# EAGLE library part HI5812JIPZ (library Intersil_By_element14_Batch_1)
A/D Converter
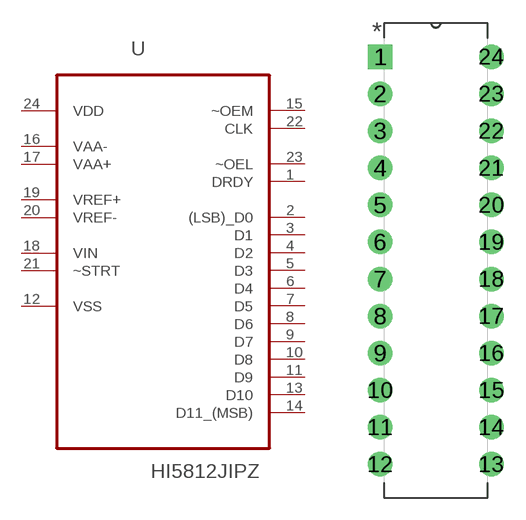
[diagram p131: symbol with the pads of DIP254P762X533-24; footprint DIP254P762X533-24]

Designator prefix U

## HI5812JIPZ (MPN: HI5812JIPZ; OC_FARNELL: 9664076; OC_NEWARK: 61J6052; PACKAGE: PDIP-24; SUPPLIER: INTERSIL)  [DIP254P762X533-24]
1  DRDY  out
2  (LSB)_D0  out
3  D1  out
4  D2  out
5  D3  out
6  D4  out
7  D5  out
8  D6  out
9  D7  out
10  D8  out
11  D9  out
12  VSS  pwr
13  D10  out
14  D11_(MSB)  out
15  ~OEM  out
16  VAA-  pwr
17  VAA+  pwr
18  VIN  in
19  VREF+  in
20  VREF-  in
21  ~STRT  in
22  CLK  out
23  ~OEL  out
24  VDD  pwr

## Footprint DIP254P762X533-24 (pad centres in mm)
drill 1.118 square: 1 -7.62,27.94
drill 1.118: 2 -7.62,25.4; 3 -7.62,22.86; 4 -7.62,20.32; 5 -7.62,17.78; 6 -7.62,15.24; 7 -7.62,12.7; 8 -7.62,10.16; 9 -7.62,7.62; 10 -7.62,5.08; 11 -7.62,2.54; 12 -7.62,0; 13 0,0; 14 0,2.54; 15 0,5.08; 16 0,7.62; 17 0,10.16; 18 0,12.7; 19 0,15.24; 20 0,17.78; 21 0,20.32; 22 0,22.86; 23 0,25.4; 24 0,27.94